# EAGLE library part DRV8353RSRGZR (library DRV8353RSRGZR)
Motor / Motion / Ignition Controllers & Drivers 100-V Three-Phase Smart Gate Driver With Buck Regulator and Three Current Shunt Amplifiers 48-VQFN -40 to 125 Source: Datasheet <http://www.ti.com/lit/ds/symlink/drv8353r.pdf>
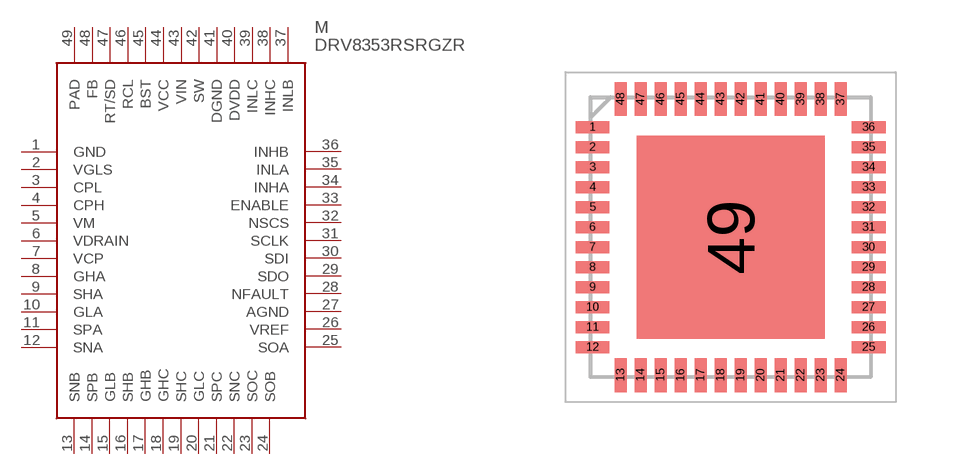
[diagram p0: symbol with the pads of QFN50P700X700X100-49N; footprint QFN50P700X700X100-49N]

Designator prefix M

## DRV8353RSRGZR (Description: Motor / Motion / Ignition Controllers & Drivers 100-V Three-Phase Smart Gate Driver With Buck Regulator and Three Current Shunt Amplifiers 48-VQFN -40 to 125; Height: 1mm; Manufacturer_Name: Texas Instruments; Manufacturer_Part_Number: DRV8353RSRGZR)  [QFN50P700X700X100-49N]
1  GND
2  VGLS
3  CPL
4  CPH
5  VM
6  VDRAIN
7  VCP
8  GHA
9  SHA
10  GLA
11  SPA
12  SNA
13  SNB
14  SPB
15  GLB
16  SHB
17  GHB
18  GHC
19  SHC
20  GLC
21  SPC
22  SNC
23  SOC
24  SOB
25  SOA
26  VREF
27  AGND
28  NFAULT
29  SDO
30  SDI
31  SCLK
32  NSCS
33  ENABLE
34  INHA
35  INLA
36  INHB
37  INLB
38  INHC
39  INLC
40  DVDD
41  DGND
42  SW
43  VIN
44  VCC
45  BST
46  RCL
47  RT/SD
48  FB
49  PAD

## Footprint QFN50P700X700X100-49N (pad centres in mm)
DRV8353RSRGZT
smd 0.85 x 0.3: 1 -3.45,2.75; 2 -3.45,2.25; 3 -3.45,1.75; 4 -3.45,1.25; 5 -3.45,0.75; 6 -3.45,0.25; 7 -3.45,-0.25; 8 -3.45,-0.75; 9 -3.45,-1.25; 10 -3.45,-1.75; 11 -3.45,-2.25; 12 -3.45,-2.75; 25 3.45,-2.75; 26 3.45,-2.25; 27 3.45,-1.75; 28 3.45,-1.25; 29 3.45,-0.75; 30 3.45,-0.25; 31 3.45,0.25; 32 3.45,0.75; 33 3.45,1.25; 34 3.45,1.75; 35 3.45,2.25; 36 3.45,2.75
smd 0.3 x 0.85: 13 -2.75,-3.45; 14 -2.25,-3.45; 15 -1.75,-3.45; 16 -1.25,-3.45; 17 -0.75,-3.45; 18 -0.25,-3.45; 19 0.25,-3.45; 20 0.75,-3.45; 21 1.25,-3.45; 22 1.75,-3.45; 23 2.25,-3.45; 24 2.75,-3.45; 37 2.75,3.45; 38 2.25,3.45; 39 1.75,3.45; 40 1.25,3.45; 41 0.75,3.45; 42 0.25,3.45; 43 -0.25,3.45; 44 -0.75,3.45; 45 -1.25,3.45; 46 -1.75,3.45; 47 -2.25,3.45; 48 -2.75,3.45
smd 4.7 x 5.075: 49 0,0